# EAGLE library part XC9572 (library dp_devices)
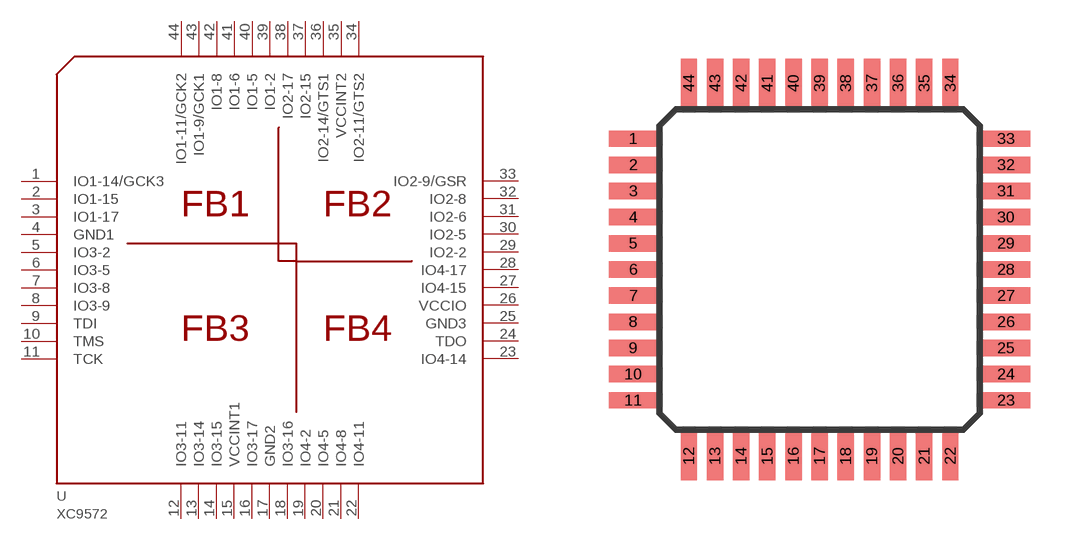
[diagram p61: symbol with the pads of VQ44; footprint VQ44]

Designator prefix -

## XC9572VQ44  [VQ44]
1  IO1-14/GCK3
2  IO1-15
3  IO1-17
4  GND1
5  IO3-2
6  IO3-5
7  IO3-8
8  IO3-9
9  TDI
10  TMS
11  TCK
12  IO3-11
13  IO3-14
14  IO3-15
15  VCCINT1
16  IO3-17
17  GND2
18  IO3-16
19  IO4-2
20  IO4-5
21  IO4-8
22  IO4-11
23  IO4-14
24  TDO
25  GND3
26  VCCIO
27  IO4-15
28  IO4-17
29  IO2-2
30  IO2-5
31  IO2-6
32  IO2-8
33  IO2-9/GSR
34  IO2-11/GTS2
35  VCCINT2
36  IO2-14/GTS1
37  IO2-15
38  IO2-17
39  IO1-2
40  IO1-5
41  IO1-6
42  IO1-8
43  IO1-9/GCK1
44  IO1-11/GCK2

## Footprint VQ44 (pad centres in mm)
smd 1.5 x 0.5: 1 -5.7,4; 2 -5.7,3.2; 3 -5.7,2.4; 4 -5.7,1.6; 5 -5.7,0.8; 6 -5.7,0; 7 -5.7,-0.8; 8 -5.7,-1.6; 9 -5.7,-2.4; 10 -5.7,-3.2; 11 -5.7,-4; 23 5.7,-4; 24 5.7,-3.2; 25 5.7,-2.4; 26 5.7,-1.6; 27 5.7,-0.8; 28 5.7,0; 29 5.7,0.8; 30 5.7,1.6; 31 5.7,2.4; 32 5.7,3.2; 33 5.7,4
smd 0.5 x 1.5: 12 -4,-5.7; 13 -3.2,-5.7; 14 -2.4,-5.7; 15 -1.6,-5.7; 16 -0.8,-5.7; 17 0,-5.7; 18 0.8,-5.7; 19 1.6,-5.7; 20 2.4,-5.7; 21 3.2,-5.7; 22 4,-5.7; 34 4,5.7; 35 3.2,5.7; 36 2.4,5.7; 37 1.6,5.7; 38 0.8,5.7; 39 0,5.7; 40 -0.8,5.7; 41 -1.6,5.7; 42 -2.4,5.7; 43 -3.2,5.7; 44 -4,5.7